# Altium schematic symbol library Allegro - Motor Driver ICs.SchLib: 1 symbol
Pins are listed as number, name and electrical type; pins without a type are passive.

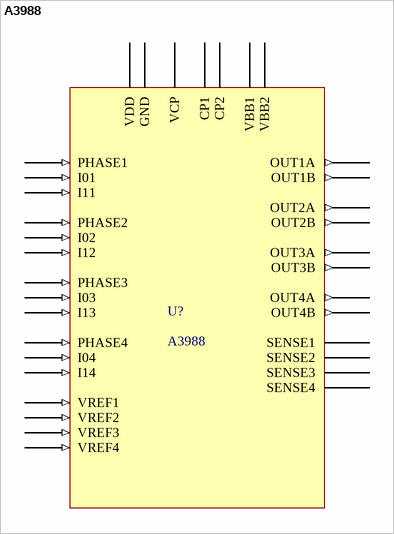
[diagram p0: symbol A3988]

## A3988
designator U?
Quad DMOS Full Bridge PWM Motor Driver
footprint EV (QFN, 36-Leads, exposed thermal pad); pin to pad CP1>32 CP2>33 GND>16 I01>34 I02>35 I03>36 I04>1 I11>29 I12>28 I13>27 I14>19 OUT1A>2 OUT1B>4 OUT2A>8 OUT2B>6 OUT3A>26 OUT3B>24 OUT4A>20 OUT4B>22 PHASE1>18 PHASE2>17 PHASE3>10 PHASE4>9 SENSE1>3 SENSE2>7 SENSE3>25 SENSE4>21 VBB1>5 VBB2>23 VCP>31 VDD>11 VREF1>12 VREF2>13 VREF3>14 VREF4>15
footprint JP (LQFP, 48-Leads, Body 9.2x9.2mm (max), Pitch 0.50mm, IPC Medium Density)
pins: CP1, CP2, GND (power), I01 (in), I02 (in), I03 (in), I04 (in), I11 (in), I12 (in), I13 (in), I14 (in), OUT1A (out), OUT1B (out), OUT2A (out), OUT2B (out), OUT3A (out), OUT3B (out), OUT4A (out), OUT4B (out), PHASE1 (in), PHASE2 (in), PHASE3 (in), PHASE4 (in), SENSE1, SENSE2, SENSE3, SENSE4, VBB1 (power), VBB2 (power), VCP, VDD (power), VREF1 (in), VREF2 (in), VREF3 (in), VREF4 (in)